# Altium integrated library Renesas ASSP.IntLib: 185 symbols (part 6 of 6)
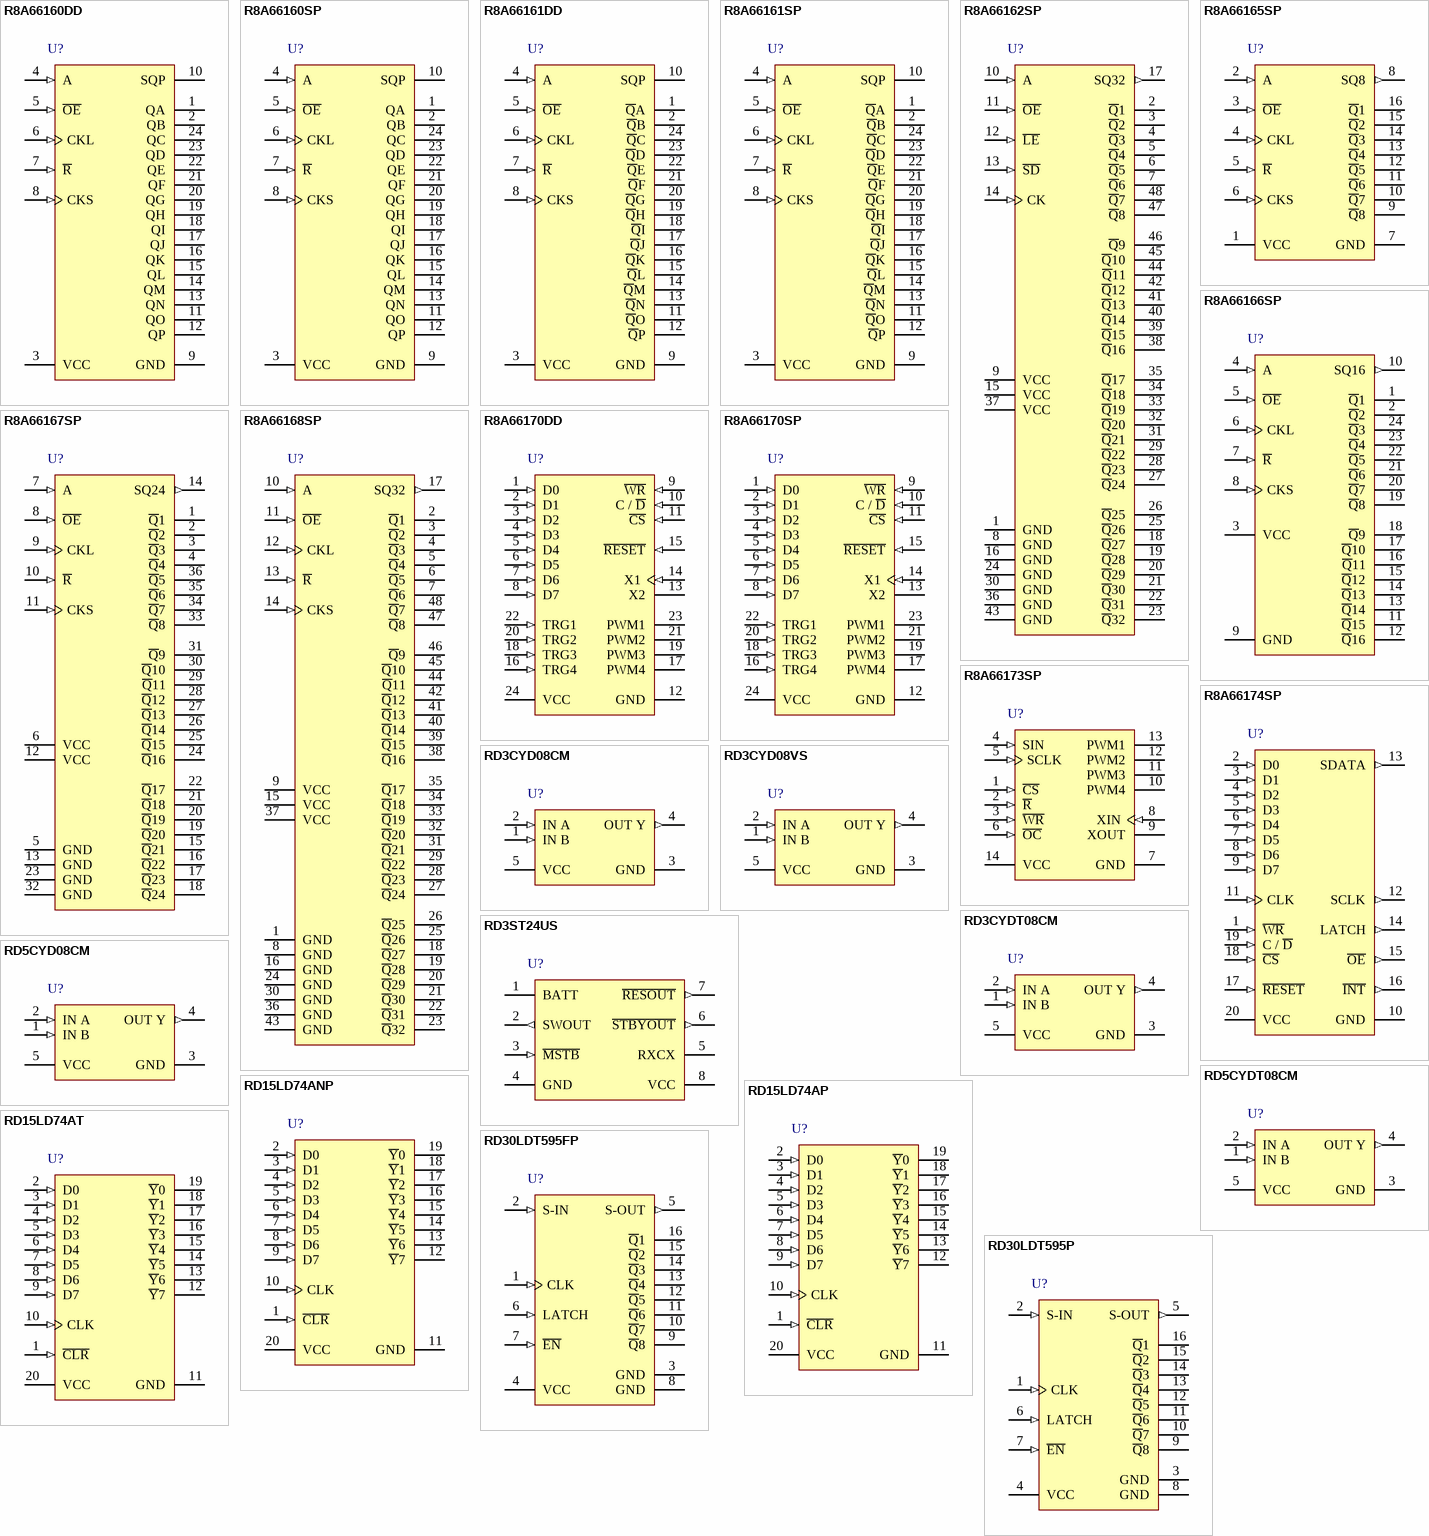
[diagram p21: symbols R8A66160DD to RD30LDT595P]

## R8A66167SP
designator U?
24-Bit High Voltage Output LED Driver with Shift Register and Latch, 36-Pin SOP; Published: 5-Feb-2010; DatasheetVersion: Rev.1.01, Dec-2008; PackageVersion: 2008; PackageReference: PRSP0036GC-A; Publisher: Altium Limited; PackageDescription: 36-Pin Plastic SOP, 15.88 x 7.49 x 2.29 mm Body, 0.8 mm Pitch; ComponentLink1Description: Manufacturer Link; ComponentLink1URL: http://sg.renesas.com/fmwk.jsp?cnt=assp_category_landing.jsp&fp=/products/assp; ComponentLink2Description: Datasheet; ComponentLink2URL: http://documentation.renesas.com/eng/products/assp/rej03f0281_r8a66165sp_ds.pdf
footprint PRSP0036GC-A_N (SOP, 36-Leads, Body 15.88x7.49mm, Pitch 0.8mm, IPC Medium Density)
footprint PRSP0036GC-A_L (SOP, 36-Leads, Body 15.88x7.49mm, Pitch 0.8mm, IPC High Density)
footprint PRSP0036GC-A_M (SOP, 36-Leads, Body 15.88x7.49mm, Pitch 0.8mm, IPC Low Density)
pins: 1 ~{Q}1 (hiz), 2 ~{Q}2 (hiz), 3 ~{Q}3 (hiz), 4 ~{Q}4 (hiz), 5 GND (power), 6 VCC (power), 7 A (in), 8 ~{OE} (in), 9 CKL (in), 10 ~{R} (in), 11 CKS (in), 12 VCC (power), 13 GND (power), 14 SQ24 (out), 15 ~{Q}21 (hiz), 16 ~{Q}22 (hiz), 17 ~{Q}23 (hiz), 18 ~{Q}24 (hiz), 19 ~{Q}20 (hiz), 20 ~{Q}19 (hiz), 21 ~{Q}18 (hiz), 22 ~{Q}17 (hiz), 23 GND (power), 24 ~{Q}16 (hiz), 25 ~{Q}15 (hiz), 26 ~{Q}14 (hiz), 27 ~{Q}13 (hiz), 28 ~{Q}12 (hiz), 29 ~{Q}11 (hiz), 30 ~{Q}10 (hiz), 31 ~{Q}9 (hiz), 32 GND (power), 33 ~{Q}8 (hiz), 34 ~{Q}7 (hiz), 35 ~{Q}6 (hiz), 36 ~{Q}5 (hiz)

## R8A66168SP
designator U?
32-Bit High Voltage Output LED Driver with Shift Register and Latch, 48-Pin SOP; Published: 5-Feb-2010; DatasheetVersion: Rev.1.01, Dec-2008; PackageVersion: 2008; PackageReference: PRSP0048ZB-A; Publisher: Altium Limited; PackageDescription: 48-Pin Plastic Small Outline Package, 15.875 x 7.49 x 2.29 mm Body,  0.635 mm Pitch; Code_IPC: SOP635P1035-48; ComponentLink1Description: Manufacturer Link; ComponentLink1URL: http://sg.renesas.com/fmwk.jsp?cnt=assp_category_landing.jsp&fp=/products/assp; ComponentLink2Description: Datasheet; ComponentLink2URL: http://documentation.renesas.com/eng/products/assp/rej03f0281_r8a66165sp_ds.pdf
footprint PRSP0048ZB-A_N (SOP, 48-Leads, Body 15.9x7.5mm, Pitch 0.635mm, IPC Medium Density)
footprint PRSP0048ZB-A_L (SOP, 48-Leads, Body 15.9x7.5mm, Pitch 0.635mm, IPC High Density)
footprint PRSP0048ZB-A_M (SOP, 48-Leads, Body 15.9x7.5mm, Pitch 0.635mm, IPC Low Density)
pins: 1 GND (power), 2 ~{Q}1 (hiz), 3 ~{Q}2 (hiz), 4 ~{Q}3 (hiz), 5 ~{Q}4 (hiz), 6 ~{Q}5 (hiz), 7 ~{Q}6 (hiz), 8 GND (power), 9 VCC (power), 10 A (in), 11 ~{OE} (in), 12 CKL (in), 13 ~{R} (in), 14 CKS (in), 15 VCC (power), 16 GND (power), 17 SQ32 (out), 18 ~{Q}27 (hiz), 19 ~{Q}28 (hiz), 20 ~{Q}29 (hiz), 21 ~{Q}30 (hiz), 22 ~{Q}31 (hiz), 23 ~{Q}32 (hiz), 24 GND (power), 25 ~{Q}26 (hiz), 26 ~{Q}25 (hiz), 27 ~{Q}24 (hiz), 28 ~{Q}23 (hiz), 29 ~{Q}22 (hiz), 30 GND (power), 31 ~{Q}21 (hiz), 32 ~{Q}20 (hiz), 33 ~{Q}19 (hiz), 34 ~{Q}18 (hiz), 35 ~{Q}17 (hiz), 36 GND (power), 37 VCC (power), 38 ~{Q}16 (hiz), 39 ~{Q}15 (hiz), 40 ~{Q}14 (hiz), 41 ~{Q}13 (hiz), 42 ~{Q}12 (hiz), 43 GND (power), 44 ~{Q}11 (hiz), 45 ~{Q}10 (hiz), 46 ~{Q}9 (hiz), 47 ~{Q}8 (hiz), 48 ~{Q}7 (hiz)

## R8A66170DD
designator U?
4-channel, 16-Bit PWM Generator, 24-Pin DIP; Published: 5-Feb-2010; DatasheetVersion: Rev.1.00, Apr-2008; PackageVersion: 2008; PackageReference: PRDP0024AF-A; Publisher: Altium Limited; PackageDescription: 24-Pin Plastic DIP, 31.75 x 6.55 mm Body, 7.62 mm Row Spacing, Pitch 2.54 mm; ComponentLink1Description: Manufacturer Link; ComponentLink1URL: http://sg.renesas.com/fmwk.jsp?cnt=assp_category_landing.jsp&fp=/products/assp; ComponentLink2Description: Datasheet; ComponentLink2URL: http://documentation.renesas.com/eng/products/assp/rej03f0272_r8a66170.pdf
footprint PRDP0024AF-A (DIP, 24-Leads, Row Spacing 7.62mm, Pitch 2.54mm, Body 31.75x6.54mm)
pins: 1 D0 (in), 2 D1 (in), 3 D2 (in), 4 D3 (in), 5 D4 (in), 6 D5 (in), 7 D6 (in), 8 D7 (in), 9 ~{WR} (in), 10 C / ~{D} (in), 11 ~{CS} (in), 12 GND (power), 13 X2, 14 X1 (in), 15 ~{RESET} (in), 16 TRG4 (in), 17 PWM4 (hiz), 18 TRG3 (in), 19 PWM3 (hiz), 20 TRG2 (in), 21 PWM2 (hiz), 22 TRG1 (in), 23 PWM1 (hiz), 24 VCC (power)

## R8A66170SP
designator U?
4-channel, 16-Bit PWM Generator, 24-Pin SOIC; Published: 5-Feb-2010; DatasheetVersion: Rev.1.00, Apr-2008; PackageVersion: 2009; PackageReference: PRSP0024DF-A; Publisher: Altium Limited; PackageDescription: 24-Pin Small Outline Integrated Circuit, 15.4 x 7.5 mm Body, 1.27 mm Pitch; ComponentLink1Description: Manufacturer Link; ComponentLink1URL: http://sg.renesas.com/fmwk.jsp?cnt=assp_category_landing.jsp&fp=/products/assp; ComponentLink2Description: Datasheet; ComponentLink2URL: http://documentation.renesas.com/eng/products/assp/rej03f0272_r8a66170.pdf; ComponentLink3Description: Packaging Specification; ComponentLink3URL: http://sg.renesas.com/media/products/common_info/package/pdf/ic/code/prsp0024df_a.pdf
footprint PRSP0024DF-A_N (SOIC, 24-Leads, Body 15.4x7.5mm, Pitch 1.27mm, IPC Medium Density)
footprint PRSP0024DF-A_L (SOIC, 24-Leads, Body 15.4x7.5mm, Pitch 1.27mm, IPC High Density)
footprint PRSP0024DF-A_M (SOIC, 24-Leads, Body 15.4x7.5mm, Pitch 1.27mm, IPC Low Density)
pins: 1 D0 (in), 2 D1 (in), 3 D2 (in), 4 D3 (in), 5 D4 (in), 6 D5 (in), 7 D6 (in), 8 D7 (in), 9 ~{WR} (in), 10 C / ~{D} (in), 11 ~{CS} (in), 12 GND (power), 13 X2, 14 X1 (in), 15 ~{RESET} (in), 16 TRG4 (in), 17 PWM4 (hiz), 18 TRG3 (in), 19 PWM3 (hiz), 20 TRG2 (in), 21 PWM2 (hiz), 22 TRG1 (in), 23 PWM1 (hiz), 24 VCC (power)

## R8A66173SP
designator U?
4-channel, 12-Bit PWM Generator, 14-Pin SOIC; Published: 5-Feb-2010; DatasheetVersion: Rev.1.00, Jan-2008; PackageVersion: 2008; PackageReference: PRSP0014DG-A; Publisher: Altium Limited; PackageDescription: 14-Pin Small Outline Integrated Circuit, 8.6 x 3.9 mm Body, 1.27 mm Pitch; Code_IPC: SOIC127P600-14; ComponentLink1Description: Manufacturer Link; ComponentLink1URL: http://sg.renesas.com/fmwk.jsp?cnt=assp_category_landing.jsp&fp=/products/assp; ComponentLink2Description: Datasheet; ComponentLink2URL: http://documentation.renesas.com/eng/products/assp/rej03f0264_r8a66173ds.pdf
footprint PRSP0014DG-A_N (SOIC, 14-Leads, Body 8.6x3.9mm, Pitch 1.27mm, IPC Medium Density)
footprint PRSP0014DG-A_L (SOIC, 14-Leads, Body 8.6x3.9mm, Pitch 1.27mm, IPC High Density)
footprint PRSP0014DG-A_M (SOIC, 14-Leads, Body 8.6x3.9mm, Pitch 1.27mm, IPC Low Density)
pins: 1 ~{CS} (in), 2 ~{R} (in), 3 ~{WR} (in), 4 SIN (in), 5 SCLK (in), 6 ~{OC} (in), 7 GND (power), 8 XIN (in), 9 XOUT, 10 PWM4 (hiz), 11 PWM3 (hiz), 12 PWM2 (hiz), 13 PWM1 (hiz), 14 VCC (power)

## R8A66174SP
designator U?
Parallel-In Serial-Out Data Buffer with FIFO, 20-Pin SOIC; Published: 5-Feb-2010; DatasheetVersion: Rev.1.01, Oct-2008; PackageVersion: 2008; PackageReference: PRSP0020DG-A; Publisher: Altium Limited; PackageDescription: 20-Pin Small Outline Integrated Circuit, 12.8 x 7.5 mm Body, 1.27 mm Pitch; Code_IPC: SOIC127P1030-20; ComponentLink1Description: Manufacturer Link; ComponentLink1URL: http://sg.renesas.com/fmwk.jsp?cnt=assp_category_landing.jsp&fp=/products/assp; ComponentLink2Description: Datasheet; ComponentLink2URL: http://documentation.renesas.com/eng/products/assp/rej03f0278_r8a66174spds.pdf
footprint PRSP0020DG-A_N (SOIC, 20-Leads, Body 12.8x7.5mm, Pitch 1.27mm, IPC Medium Density)
footprint PRSP0020DG-A_L (SOIC, 20-Leads, Body 12.8x7.5mm, Pitch 1.27mm, IPC High Density)
footprint PRSP0020DG-A_M (SOIC, 20-Leads, Body 12.8x7.5mm, Pitch 1.27mm, IPC Low Density)
pins: 1 ~{WR} (in), 2 D0 (in), 3 D1 (in), 4 D2 (in), 5 D3 (in), 6 D4 (in), 7 D5 (in), 8 D6 (in), 9 D7 (in), 10 GND (power), 11 CLK (in), 12 SCLK (out), 13 SDATA (out), 14 LATCH (out), 15 ~{OE} (out), 16 ~{INT} (out), 17 ~{RESET} (in), 18 ~{CS} (in), 19 C / ~{D} (in), 20 VCC (power)

## RD3CYD08CM
designator U?
IGBT Driver, 5-Pin SOT 23; Published: 5-Feb-2010; DatasheetVersion: Rev.6.00, Apr-2008; PackageVersion: Jan-2005; PackageReference: PTSP0005ZC-A; Publisher: Altium Limited; PackageDescription: 5-Pin Plastic SOT-353 Package 0.65 mm Pitch, 2.1 mm Lead Span; Code_JEITA: SC-88A; Code_IPC: SOT353-5; ComponentLink1Description: Manufacturer Link; ComponentLink1URL: http://sg.renesas.com/fmwk.jsp?cnt=assp_category_landing.jsp&fp=/products/assp; ComponentLink2Description: Datasheet; ComponentLink2URL: http://documentation.renesas.com/eng/products/logic/rej03d0179_rd3cyd08.pdf; ComponentLink3Description: Packaging Specification; ComponentLink3URL: http://sg.renesas.com/media/products/common_info/package/pdf/ic/code/ptsp0005zc_a.pdf
footprint PTSP0005ZC-A_N (SOT353, 5-Leads, Body 2x1.3mm, Pitch 0.65mm, Lead Span 2.1mm, IPC Medium Density)
footprint PTSP0005ZC-A_L (SOT353, 5-Leads, Body 2x1.3mm, Pitch 0.65mm, Lead Span 2.1mm, IPC High Density)
footprint PTSP0005ZC-A_M (SOT353, 5-Leads, Body 2x1.3mm, Pitch 0.65mm, Lead Span 2.1mm, IPC Low Density)
pins: 1 IN B (in), 2 IN A (in), 3 GND (power), 4 OUT Y (out), 5 VCC (power)

## RD3CYD08VS
designator U?
IGBT Driver, 5-Pin SOP; Published: 5-Feb-2010; DatasheetVersion: Rev.6.00, Apr-2008; PackageVersion: Sep-2005; PackageReference: PUSN0005KA-A; Publisher: Altium Limited; PackageDescription: 5-Pin Dual Lead-Flat Package 0.5 mm Pitch (VSON-5); Code_JEITA: P-USON5-1.2x1.6-0.50; ComponentLink1Description: Manufacturer Link; ComponentLink1URL: http://sg.renesas.com/fmwk.jsp?cnt=assp_category_landing.jsp&fp=/products/assp; ComponentLink2Description: Datasheet; ComponentLink2URL: http://documentation.renesas.com/eng/products/logic/rej03d0179_rd3cyd08.pdf; ComponentLink3Description: Packaging Specification; ComponentLink3URL: http://sg.renesas.com/media/products/common_info/package/pdf/ic/code/pusn0005ka_a.pdf
footprint PUSN0005KA-A (SOP, 5-Flat Leads, Body 1.6x1.2x0.55mm, Pitch 0.5mm, Renesas Recommended)
pins: 1 IN B (in), 2 IN A (in), 3 GND (power), 4 OUT Y (out), 5 VCC (power)

## RD3CYDT08CM
designator U?
IGBT Driver, 5-Pin SOT 23; Published: 5-Feb-2010; DatasheetVersion: Rev.3.00, Apr-2008; PackageVersion: Jan-2005; PackageReference: PTSP0005ZC-A; Publisher: Altium Limited; PackageDescription: 5-Pin Plastic SOT-353 Package 0.65 mm Pitch, 2.1 mm Lead Span; Code_JEITA: SC-88A; Code_IPC: SOT353-5; ComponentLink1Description: Manufacturer Link; ComponentLink1URL: http://sg.renesas.com/fmwk.jsp?cnt=assp_category_landing.jsp&fp=/products/assp; ComponentLink2Description: Datasheet; ComponentLink2URL: http://documentation.renesas.com/eng/products/logic/rej03d0905_rd3cydt08ds.pdf; ComponentLink3Description: Packaging Specification; ComponentLink3URL: http://sg.renesas.com/media/products/common_info/package/pdf/ic/code/ptsp0005zc_a.pdf
footprint PTSP0005ZC-A_N (SOT353, 5-Leads, Body 2x1.3mm, Pitch 0.65mm, Lead Span 2.1mm, IPC Medium Density)
footprint PTSP0005ZC-A_L (SOT353, 5-Leads, Body 2x1.3mm, Pitch 0.65mm, Lead Span 2.1mm, IPC High Density)
footprint PTSP0005ZC-A_M (SOT353, 5-Leads, Body 2x1.3mm, Pitch 0.65mm, Lead Span 2.1mm, IPC Low Density)
pins: 1 IN B (in), 2 IN A (in), 3 GND (power), 4 OUT Y (out), 5 VCC (power)

## RD3ST24US
designator U?
Standby Control IC, 8-Pin TSSOP; Published: 5-Feb-2010; DatasheetVersion: Rev.2.00, Mar-2006; PackageVersion: Sep-2005; PackageReference: PVSP0008KA-A; Publisher: Altium Limited; PackageDescription: 8-Pin Plastic Thin Shrink Small Outline Package 0.5 mm Pitch; Code_JEITA: P-VSSOP8-2.3x2-0.50; ComponentLink1Description: Manufacturer Link; ComponentLink1URL: http://sg.renesas.com/fmwk.jsp?cnt=assp_category_landing.jsp&fp=/products/assp; ComponentLink2Description: Datasheet; ComponentLink2URL: http://documentation.renesas.com/eng/products/logic/rej03d0521_rd3st24.pdf; ComponentLink3Description: Packaging Specification; ComponentLink3URL: http://sg.renesas.com/media/products/common_info/package/pdf/ic/code/pvsp0008ka_a.pdf
footprint PVSP0008KA-A_N (TSSOP, 8-Leads, Body 2x2.3mm, Pitch 0.5mm, IPC Medium Density)
footprint PVSP0008KA-A_L (TSSOP, 8-Leads, Body 2x2.3mm, Pitch 0.5mm, IPC High Density)
footprint PVSP0008KA-A_M (TSSOP, 8-Leads, Body 2x2.3mm, Pitch 0.5mm, IPC Low Density)
pins: 1 BATT (power), 2 SWOUT (out), 3 ~{MSTB} (in), 4 GND (power), 5 RXCX (power), 6 ~{STBYOUT} (out), 7 ~{RESOUT} (out), 8 VCC (power)

## RD5CYD08CM
designator U?
IGBT Driver, 5-Pin SOT 23; Published: 5-Feb-2010; DatasheetVersion: Rev.7.00, Apr-2008; PackageVersion: Jan-2005; PackageReference: PTSP0005ZC-A; Publisher: Altium Limited; PackageDescription: 5-Pin Plastic SOT-353 Package 0.65 mm Pitch, 2.1 mm Lead Span; Code_JEITA: SC-88A; Code_IPC: SOT353-5; ComponentLink1Description: Manufacturer Link; ComponentLink1URL: http://sg.renesas.com/fmwk.jsp?cnt=assp_category_landing.jsp&fp=/products/assp; ComponentLink2Description: Datasheet; ComponentLink2URL: http://documentation.renesas.com/eng/products/logic/rej03d0180_rd5cyd08.pdf; ComponentLink3Description: Packaging Specification; ComponentLink3URL: http://sg.renesas.com/media/products/common_info/package/pdf/ic/code/ptsp0005zc_a.pdf
footprint PTSP0005ZC-A_N (SOT353, 5-Leads, Body 2x1.3mm, Pitch 0.65mm, Lead Span 2.1mm, IPC Medium Density)
footprint PTSP0005ZC-A_L (SOT353, 5-Leads, Body 2x1.3mm, Pitch 0.65mm, Lead Span 2.1mm, IPC High Density)
footprint PTSP0005ZC-A_M (SOT353, 5-Leads, Body 2x1.3mm, Pitch 0.65mm, Lead Span 2.1mm, IPC Low Density)
pins: 1 IN B (in), 2 IN A (in), 3 GND (power), 4 OUT Y (out), 5 VCC (power)

## RD5CYDT08CM
designator U?
IGBT Driver/CMOS Logic Level Shifter, 5-Pin SOT 23; Published: 5-Feb-2010; DatasheetVersion: Rev.7.00, Apr-2008; PackageVersion: Jan-2005; PackageReference: PTSP0005ZC-A; Publisher: Altium Limited; PackageDescription: 5-Pin Plastic SOT-353 Package 0.65 mm Pitch, 2.1 mm Lead Span; Code_JEITA: SC-88A; Code_IPC: SOT353-5; ComponentLink1Description: Manufacturer Link; ComponentLink1URL: http://sg.renesas.com/fmwk.jsp?cnt=assp_category_landing.jsp&fp=/products/assp; ComponentLink2Description: Datasheet; ComponentLink2URL: http://documentation.renesas.com/eng/products/logic/rej03d0181_rd5cydt08.pdf; ComponentLink3Description: Packaging Specification; ComponentLink3URL: http://sg.renesas.com/media/products/common_info/package/pdf/ic/code/ptsp0005zc_a.pdf
footprint PTSP0005ZC-A_N (SOT353, 5-Leads, Body 2x1.3mm, Pitch 0.65mm, Lead Span 2.1mm, IPC Medium Density)
footprint PTSP0005ZC-A_L (SOT353, 5-Leads, Body 2x1.3mm, Pitch 0.65mm, Lead Span 2.1mm, IPC High Density)
footprint PTSP0005ZC-A_M (SOT353, 5-Leads, Body 2x1.3mm, Pitch 0.65mm, Lead Span 2.1mm, IPC Low Density)
pins: 1 IN B (in), 2 IN A (in), 3 GND (power), 4 OUT Y (out), 5 VCC (power)

## RD15LD74ANP
designator U?
8-Bit D-Type Flip-Flop Driver with clear, 20-Pin DIP; Published: 5-Feb-2010; DatasheetVersion: Rev.3.00, Feb-2008; PackageVersion: Sep-2005; PackageReference: PRDP0020AC-B; Publisher: Altium Limited; PackageDescription: 20-Pin Plastic DIP, 24.5 x 6.3 mm Body, 7.62 mm Row Spacing, 2.54 mm Pitch; Code_JEITA: P-DIP20-6.3x24.5-2.54; ComponentLink1Description: Manufacturer Link; ComponentLink1URL: http://sg.renesas.com/fmwk.jsp?cnt=assp_category_landing.jsp&fp=/products/assp; ComponentLink2Description: Datasheet; ComponentLink2URL: http://documentation.renesas.com/eng/products/logic/rej03d0894_rd15ld74apanpatds.pdf; ComponentLink3Description: Packaging Specification; ComponentLink3URL: http://sg.renesas.com/media/products/common_info/package/pdf/ic/code/prdp0020ac_b.pdf
footprint PRDP0020AC-B (DIP, 20-Leads, Row Spacing 7.62mm, Pitch 2.54mm, Body 24.5x6.3mm)
pins: 1 ~{CLR} (in), 2 D0 (in), 3 D1 (in), 4 D2 (in), 5 D3 (in), 6 D4 (in), 7 D5 (in), 8 D6 (in), 9 D7 (in), 10 CLK (in), 11 GND (power), 12 ~{Y}7 (hiz), 13 ~{Y}6 (hiz), 14 ~{Y}5 (hiz), 15 ~{Y}4 (hiz), 16 ~{Y}3 (hiz), 17 ~{Y}2 (hiz), 18 ~{Y}1 (hiz), 19 ~{Y}0 (hiz), 20 VCC (power)

## RD15LD74AP
designator U?
8-Bit D-Type Flip-Flop Driver with clear, 20-Pin DIP; Published: 5-Feb-2010; DatasheetVersion: Rev.3.00, Feb-2008; PackageVersion: Sep-2005; PackageReference: PRDP0020BA-A; Publisher: Altium Limited; PackageDescription: 20-Pin Plastic Shrink DIP, 19 x 6.3 mm Body, 7.62 mm Row Spacing, 1.778 mm Pitch; Code_JEITA: P-SDIP20-6.3x19-1.78; ComponentLink1Description: Manufacturer Link; ComponentLink1URL: http://sg.renesas.com/fmwk.jsp?cnt=assp_category_landing.jsp&fp=/products/assp; ComponentLink2Description: Datasheet; ComponentLink2URL: http://documentation.renesas.com/eng/products/logic/rej03d0894_rd15ld74apanpatds.pdf; ComponentLink3Description: Packaging Specification; ComponentLink3URL: http://sg.renesas.com/media/products/common_info/package/pdf/ic/code/prdp0020ba_a.pdf
footprint PRDP0020BA-A (DIP, 20-Leads, Row Spacing 7.62mm, Pitch 1.778mm, Body 19x6.3mm)
pins: 1 ~{CLR} (in), 2 D0 (in), 3 D1 (in), 4 D2 (in), 5 D3 (in), 6 D4 (in), 7 D5 (in), 8 D6 (in), 9 D7 (in), 10 CLK (in), 11 GND (power), 12 ~{Y}7 (hiz), 13 ~{Y}6 (hiz), 14 ~{Y}5 (hiz), 15 ~{Y}4 (hiz), 16 ~{Y}3 (hiz), 17 ~{Y}2 (hiz), 18 ~{Y}1 (hiz), 19 ~{Y}0 (hiz), 20 VCC (power)

## RD15LD74AT
designator U?
8-Bit D-Type Flip-Flop Driver with clear, 20-Pin TSOP; Published: 5-Feb-2010; DatasheetVersion: Rev.3.00, Feb-2008; PackageVersion: Sep-2005; PackageReference: PTSP0020JB-A; Publisher: Altium Limited; PackageDescription: 20-Pin Plastic Thin Small Outline Package, 6.5 x 4.4 mm Body, 0.65 mm Pitch; Code_JEITA: P-TSSOP20-4.4x6.5-0.65; ComponentLink1Description: Manufacturer Link; ComponentLink1URL: http://sg.renesas.com/fmwk.jsp?cnt=assp_category_landing.jsp&fp=/products/assp; ComponentLink2Description: Datasheet; ComponentLink2URL: http://documentation.renesas.com/eng/products/logic/rej03d0894_rd15ld74apanpatds.pdf; ComponentLink3Description: Packaging Specification; ComponentLink3URL: http://sg.renesas.com/media/products/common_info/package/pdf/ic/code/ptsp0020jb_a.pdf
footprint PTSP0020JB-A_N (TSOP, 20-Leads, Body 6.5x4.4mm, Pitch 0.65mm, IPC Medium Density)
footprint PTSP0020JB-A_L (TSOP, 20-Leads, Body 6.5x4.4mm, Pitch 0.65mm, IPC High Density)
footprint PTSP0020JB-A_M (TSOP, 20-Leads, Body 6.5x4.4mm, Pitch 0.65mm, IPC Low Density)
pins: 1 ~{CLR} (in), 2 D0 (in), 3 D1 (in), 4 D2 (in), 5 D3 (in), 6 D4 (in), 7 D5 (in), 8 D6 (in), 9 D7 (in), 10 CLK (in), 11 GND (power), 12 ~{Y}7 (hiz), 13 ~{Y}6 (hiz), 14 ~{Y}5 (hiz), 15 ~{Y}4 (hiz), 16 ~{Y}3 (hiz), 17 ~{Y}2 (hiz), 18 ~{Y}1 (hiz), 19 ~{Y}0 (hiz), 20 VCC (power)

## RD30LDT595FP
designator U?
8-Bit Serial-In Parallel-Out LED Driver, 16-Pin SOP; Published: 5-Feb-2010; DatasheetVersion: Rev.2.00, Jun-2008; PackageVersion: Sep-2005; PackageReference: PRSP0016DH-B; Publisher: Altium Limited; PackageDescription: 16-Pin Plastic Small Outline Package 1.27 mm Pitch; Code_JEITA: P-SOP16-5.5x10.06-1.27; ComponentLink1Description: Manufacturer Link; ComponentLink1URL: http://sg.renesas.com/fmwk.jsp?cnt=assp_category_landing.jsp&fp=/products/assp; ComponentLink2Description: Datasheet; ComponentLink2URL: http://documentation.renesas.com/eng/products/logic/rej03d0906_rd30ldt595ds.pdf; ComponentLink3Description: Packaging Specification; ComponentLink3URL: http://sg.renesas.com/media/products/common_info/package/pdf/ic/code/prsp0016dh_b.pdf
footprint PRSP0016DH-B_N (SOP, 16-Leads, Body 10.06x5.5mm, Pitch 1.27mm, IPC Medium Density)
footprint PRSP0016DH-B_L (SOP, 16-Leads, Body 10.06x5.5mm, Pitch 1.27mm, IPC High Density)
footprint PRSP0016DH-B_M (SOP, 16-Leads, Body 10.06x5.5mm, Pitch 1.27mm, IPC Low Density)
pins: 1 CLK (in), 2 S-IN (in), 3 GND (power), 4 VCC (power), 5 S-OUT (out), 6 LATCH (in), 7 ~{EN} (in), 8 GND (power), 9 ~{Q}8 (hiz), 10 ~{Q}7 (hiz), 11 ~{Q}6 (hiz), 12 ~{Q}5 (hiz), 13 ~{Q}4 (hiz), 14 ~{Q}3 (hiz), 15 ~{Q}2 (hiz), 16 ~{Q}1 (hiz)

## RD30LDT595P
designator U?
8-Bit Serial-In Parallel-Out LED Driver, 16-Pin DIP; Published: 5-Feb-2010; DatasheetVersion: Rev.2.00, Jun-2008; PackageVersion: Sep-2005; PackageReference: PRDP0016AE-B; Publisher: Altium Limited; PackageDescription: DIP, Plastic, 16-Pin, Row Spacing 7.62 mm, Pitch 2.54 mm; Code_JEITA: P-DIP16-6.3x19.2-2.54; ComponentLink1Description: Manufacturer Link; ComponentLink1URL: http://sg.renesas.com/fmwk.jsp?cnt=assp_category_landing.jsp&fp=/products/assp; ComponentLink2Description: Datasheet; ComponentLink2URL: http://documentation.renesas.com/eng/products/logic/rej03d0906_rd30ldt595ds.pdf; ComponentLink3Description: Packaging Specification; ComponentLink3URL: http://sg.renesas.com/media/products/common_info/package/pdf/ic/code/prdp0016ae_b.pdf
footprint PRDP0016AE-B (DIP, 16-Leads, Row Spacing 7.62mm, Pitch 2.54mm, Body 19.2x6.3mm)
pins: 1 CLK (in), 2 S-IN (in), 3 GND (power), 4 VCC (power), 5 S-OUT (out), 6 LATCH (in), 7 ~{EN} (in), 8 GND (power), 9 ~{Q}8 (hiz), 10 ~{Q}7 (hiz), 11 ~{Q}6 (hiz), 12 ~{Q}5 (hiz), 13 ~{Q}4 (hiz), 14 ~{Q}3 (hiz), 15 ~{Q}2 (hiz), 16 ~{Q}1 (hiz)

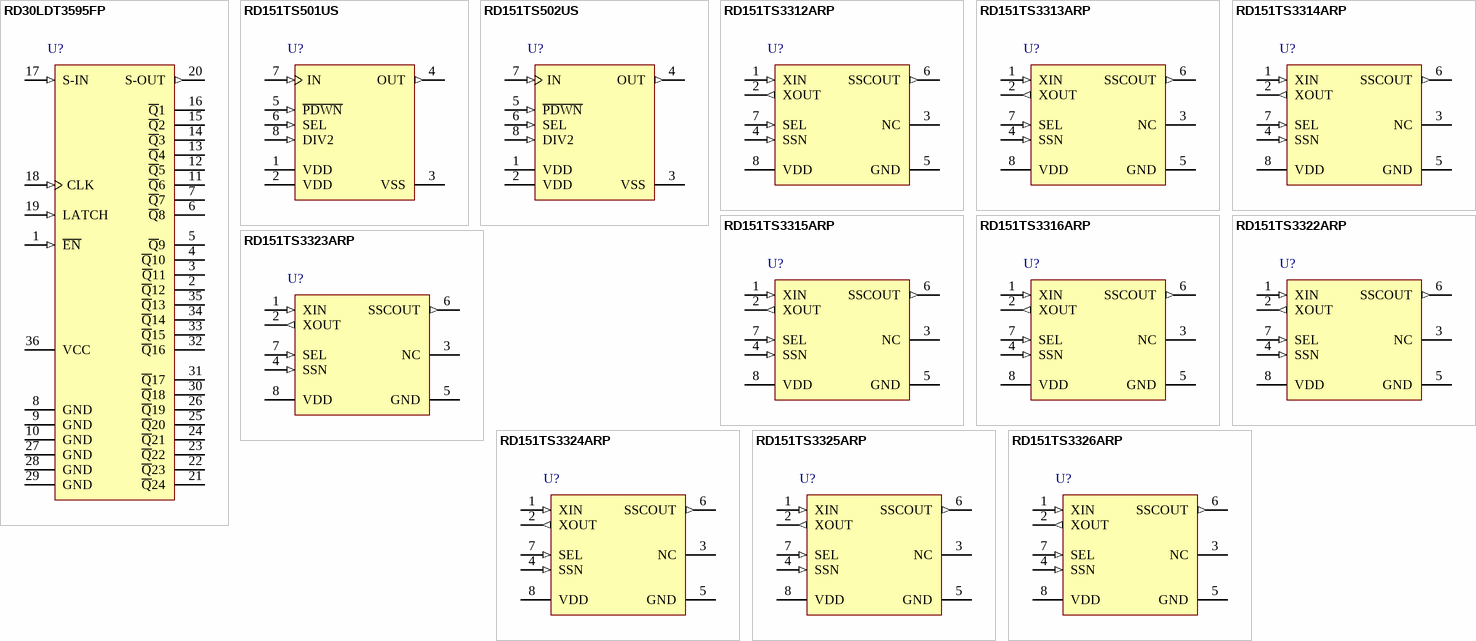
[diagram p16: symbols RD30LDT3595FP to RD151TS3326ARP]

## RD30LDT3595FP
designator U?
24-Bit Serial-In Parallel-Out LED Driver, 36-Pin SOP; Published: 5-Feb-2010; DatasheetVersion: Rev.4.00, Dec-2008; PackageVersion: Sep-2005; PackageReference: PRSP0036GA-B; Publisher: Altium Limited; PackageDescription: 36-Pin Plastic Shrink SOP, 15 x 8.4 mm Body, 0.8 mm Pitch; Code_JEITA: P-SSOP36-8.4x15-0.80; ComponentLink1Description: Manufacturer Link; ComponentLink1URL: http://sg.renesas.com/fmwk.jsp?cnt=assp_category_landing.jsp&fp=/products/assp; ComponentLink2Description: Datasheet; ComponentLink2URL: http://documentation.renesas.com/eng/products/logic/rej03d0896_rd30ldt3595ds.pdf; ComponentLink3Description: Packaging Specification; ComponentLink3URL: http://sg.renesas.com/media/products/common_info/package/pdf/ic/code/prsp0036ga_b.pdf
footprint PRSP0036GA-B_N (SOP, 36-Leads, Body 15x8.4mm, Pitch 0.8mm, IPC Medium Density)
footprint PRSP0036GA-B_L (SOP, 36-Leads, Body 15x8.4mm, Pitch 0.8mm, IPC High Density)
footprint PRSP0036GA-B_M (SOP, 36-Leads, Body 15x8.4mm, Pitch 0.8mm, IPC Low Density)
pins: 1 ~{EN} (in), 2 ~{Q}12 (hiz), 3 ~{Q}11 (hiz), 4 ~{Q}10 (hiz), 5 ~{Q}9 (hiz), 6 ~{Q}8 (hiz), 7 ~{Q}7 (hiz), 8 GND (power), 9 GND (power), 10 GND (power), 11 ~{Q}6 (hiz), 12 ~{Q}5 (hiz), 13 ~{Q}4 (hiz), 14 ~{Q}3 (hiz), 15 ~{Q}2 (hiz), 16 ~{Q}1 (hiz), 17 S-IN (in), 18 CLK (in), 19 LATCH (in), 20 S-OUT (out), 21 ~{Q}24 (hiz), 22 ~{Q}23 (hiz), 23 ~{Q}22 (hiz), 24 ~{Q}21 (hiz), 25 ~{Q}20 (hiz), 26 ~{Q}19 (hiz), 27 GND (power), 28 GND (power), 29 GND (power), 30 ~{Q}18 (hiz), 31 ~{Q}17 (hiz), 32 ~{Q}16 (hiz), 33 ~{Q}15 (hiz), 34 ~{Q}14 (hiz), 35 ~{Q}13 (hiz), 36 VCC (power)

## RD151TS501US
designator U?
PLL Clock Generator, 8-Pin TSSOP; Published: 5-Feb-2010; DatasheetVersion: Rev.1.02, Apr-2007; PackageVersion: Sep-2005; PackageReference: PVSP0008KA-A; Publisher: Altium Limited; PackageDescription: 8-Pin Plastic Thin Shrink Small Outline Package 0.5 mm Pitch; Code_JEITA: P-VSSOP8-2.3x2-0.50; ComponentLink1Description: Manufacturer Link; ComponentLink1URL: http://sg.renesas.com/fmwk.jsp?cnt=assp_category_landing.jsp&fp=/products/assp; ComponentLink2Description: Datasheet; ComponentLink2URL: http://documentation.renesas.com/eng/products/assp/rej03d0897_rd151ts501usds.pdf; ComponentLink3Description: Packaging Specification; ComponentLink3URL: http://sg.renesas.com/media/products/common_info/package/pdf/ic/code/pvsp0008ka_a.pdf
footprint PVSP0008KA-A_N (TSSOP, 8-Leads, Body 2x2.3mm, Pitch 0.5mm, IPC Medium Density)
footprint PVSP0008KA-A_L (TSSOP, 8-Leads, Body 2x2.3mm, Pitch 0.5mm, IPC High Density)
footprint PVSP0008KA-A_M (TSSOP, 8-Leads, Body 2x2.3mm, Pitch 0.5mm, IPC Low Density)
pins: 1 VDD (power), 2 VDD (power), 3 VSS (power), 4 OUT (out), 5 ~{PDWN} (in), 6 SEL (in), 7 IN (in), 8 DIV2 (in)

## RD151TS502US
designator U?
PLL Clock Generator, 8-Pin TSSOP; Published: 5-Feb-2010; DatasheetVersion: Rev.1.00, Apr-2007; PackageVersion: Sep-2005; PackageReference: PVSP0008KA-A; Publisher: Altium Limited; PackageDescription: 8-Pin Plastic Thin Shrink Small Outline Package 0.5 mm Pitch; Code_JEITA: P-VSSOP8-2.3x2-0.50; ComponentLink1Description: Manufacturer Link; ComponentLink1URL: http://sg.renesas.com/fmwk.jsp?cnt=assp_category_landing.jsp&fp=/products/assp; ComponentLink2Description: Datasheet; ComponentLink2URL: http://documentation.renesas.com/eng/products/assp/rej03d0898_rd151ts502usds.pdf; ComponentLink3Description: Packaging Specification; ComponentLink3URL: http://sg.renesas.com/media/products/common_info/package/pdf/ic/code/pvsp0008ka_a.pdf
footprint PVSP0008KA-A_N (TSSOP, 8-Leads, Body 2x2.3mm, Pitch 0.5mm, IPC Medium Density)
footprint PVSP0008KA-A_L (TSSOP, 8-Leads, Body 2x2.3mm, Pitch 0.5mm, IPC High Density)
footprint PVSP0008KA-A_M (TSSOP, 8-Leads, Body 2x2.3mm, Pitch 0.5mm, IPC Low Density)
pins: 1 VDD (power), 2 VDD (power), 3 VSS (power), 4 OUT (out), 5 ~{PDWN} (in), 6 SEL (in), 7 IN (in), 8 DIV2 (in)

## RD151TS3312ARP
designator U?
Spread Spectrum Clock for EMI Solution, 8-Pin SOIC; Published: 5-Feb-2010; DatasheetVersion: Rev.1.00, May-2006; PackageVersion: Sep-2005; PackageReference: PRSP0008DD-C; Publisher: Altium Limited; PackageDescription: 8-Pin Plastic Small Outline Integrated Circuit 1.27 mm Pitch; Code_JEITA: P-SOP8-3.95x4.9-1.27; Code_IPC: SOIC127P600-8; ComponentLink1Description: Manufacturer Link; ComponentLink1URL: http://sg.renesas.com/fmwk.jsp?cnt=assp_category_landing.jsp&fp=/products/assp; ComponentLink2Description: Datasheet; ComponentLink2URL: http://documentation.renesas.com/eng/products/logic/rej03d0793_rd151ts3312_22arpds.pdf; ComponentLink3Description: Packaging Specification; ComponentLink3URL: http://sg.renesas.com/media/products/common_info/package/pdf/ic/code/prsp0008dd_c.pdf
footprint PRSP0008DD-C_N (SOIC, 8-Leads, Body 4.9x3.95mm, Pitch 1.27mm, IPC Medium Density)
footprint PRSP0008DD-C_L (SOIC, 8-Leads, Body 4.9x3.95mm, Pitch 1.27mm, IPC High Density)
footprint PRSP0008DD-C_M (SOIC, 8-Leads, Body 4.9x3.95mm, Pitch 1.27mm, IPC Low Density)
pins: 1 XIN (in), 2 XOUT (out), 3 NC, 4 SSN (in), 5 GND (power), 6 SSCOUT (out), 7 SEL (in), 8 VDD (power)

## RD151TS3313ARP
designator U?
Spread Spectrum Clock for EMI Solution, 8-Pin SOIC; Published: 5-Feb-2010; DatasheetVersion: Rev.1.00, May-2006; PackageVersion: Sep-2005; PackageReference: PRSP0008DD-C; Publisher: Altium Limited; PackageDescription: 8-Pin Plastic Small Outline Integrated Circuit 1.27 mm Pitch; Code_JEITA: P-SOP8-3.95x4.9-1.27; Code_IPC: SOIC127P600-8; ComponentLink1Description: Manufacturer Link; ComponentLink1URL: http://sg.renesas.com/fmwk.jsp?cnt=assp_category_landing.jsp&fp=/products/assp; ComponentLink2Description: Datasheet; ComponentLink2URL: http://documentation.renesas.com/eng/products/logic/rej03d0794_rd151ts3313_23arpds.pdf; ComponentLink3Description: Packaging Specification; ComponentLink3URL: http://sg.renesas.com/media/products/common_info/package/pdf/ic/code/prsp0008dd_c.pdf
footprint PRSP0008DD-C_N (SOIC, 8-Leads, Body 4.9x3.95mm, Pitch 1.27mm, IPC Medium Density)
footprint PRSP0008DD-C_L (SOIC, 8-Leads, Body 4.9x3.95mm, Pitch 1.27mm, IPC High Density)
footprint PRSP0008DD-C_M (SOIC, 8-Leads, Body 4.9x3.95mm, Pitch 1.27mm, IPC Low Density)
pins: 1 XIN (in), 2 XOUT (out), 3 NC, 4 SSN (in), 5 GND (power), 6 SSCOUT (out), 7 SEL (in), 8 VDD (power)

## RD151TS3314ARP
designator U?
Spread Spectrum Clock for EMI Solution, 8-Pin SOIC; Published: 5-Feb-2010; DatasheetVersion: Rev.1.00, May-2006; PackageVersion: Sep-2005; PackageReference: PRSP0008DD-C; Publisher: Altium Limited; PackageDescription: 8-Pin Plastic Small Outline Integrated Circuit 1.27 mm Pitch; Code_JEITA: P-SOP8-3.95x4.9-1.27; Code_IPC: SOIC127P600-8; ComponentLink1Description: Manufacturer Link; ComponentLink1URL: http://sg.renesas.com/fmwk.jsp?cnt=assp_category_landing.jsp&fp=/products/assp; ComponentLink2Description: Datasheet; ComponentLink2URL: http://documentation.renesas.com/eng/products/logic/rej03d0795_rd151ts3314_24arpds.pdf; ComponentLink3Description: Packaging Specification; ComponentLink3URL: http://sg.renesas.com/media/products/common_info/package/pdf/ic/code/prsp0008dd_c.pdf
footprint PRSP0008DD-C_N (SOIC, 8-Leads, Body 4.9x3.95mm, Pitch 1.27mm, IPC Medium Density)
footprint PRSP0008DD-C_L (SOIC, 8-Leads, Body 4.9x3.95mm, Pitch 1.27mm, IPC High Density)
footprint PRSP0008DD-C_M (SOIC, 8-Leads, Body 4.9x3.95mm, Pitch 1.27mm, IPC Low Density)
pins: 1 XIN (in), 2 XOUT (out), 3 NC, 4 SSN (in), 5 GND (power), 6 SSCOUT (out), 7 SEL (in), 8 VDD (power)

## RD151TS3315ARP
designator U?
Spread Spectrum Clock for EMI Solution, 8-Pin SOIC; Published: 5-Feb-2010; DatasheetVersion: Rev.1.00, May-2006; PackageVersion: Sep-2005; PackageReference: PRSP0008DD-C; Publisher: Altium Limited; PackageDescription: 8-Pin Plastic Small Outline Integrated Circuit 1.27 mm Pitch; Code_JEITA: P-SOP8-3.95x4.9-1.27; Code_IPC: SOIC127P600-8; ComponentLink1Description: Manufacturer Link; ComponentLink1URL: http://sg.renesas.com/fmwk.jsp?cnt=assp_category_landing.jsp&fp=/products/assp; ComponentLink2Description: Datasheet; ComponentLink2URL: http://documentation.renesas.com/eng/products/logic/rej03d0796_rd151ts3315_25arpds.pdf; ComponentLink3Description: Packaging Specification; ComponentLink3URL: http://sg.renesas.com/media/products/common_info/package/pdf/ic/code/prsp0008dd_c.pdf
footprint PRSP0008DD-C_N (SOIC, 8-Leads, Body 4.9x3.95mm, Pitch 1.27mm, IPC Medium Density)
footprint PRSP0008DD-C_L (SOIC, 8-Leads, Body 4.9x3.95mm, Pitch 1.27mm, IPC High Density)
footprint PRSP0008DD-C_M (SOIC, 8-Leads, Body 4.9x3.95mm, Pitch 1.27mm, IPC Low Density)
pins: 1 XIN (in), 2 XOUT (out), 3 NC, 4 SSN (in), 5 GND (power), 6 SSCOUT (out), 7 SEL (in), 8 VDD (power)

## RD151TS3316ARP
designator U?
Spread Spectrum Clock for EMI Solution, 8-Pin SOIC; Published: 5-Feb-2010; DatasheetVersion: Rev.1.00, May-2006; PackageVersion: Sep-2005; PackageReference: PRSP0008DD-C; Publisher: Altium Limited; PackageDescription: 8-Pin Plastic Small Outline Integrated Circuit 1.27 mm Pitch; Code_JEITA: P-SOP8-3.95x4.9-1.27; Code_IPC: SOIC127P600-8; ComponentLink1Description: Manufacturer Link; ComponentLink1URL: http://sg.renesas.com/fmwk.jsp?cnt=assp_category_landing.jsp&fp=/products/assp; ComponentLink2Description: Datasheet; ComponentLink2URL: http://documentation.renesas.com/eng/products/logic/rej03d0797_rd151ts3316_26arpds.pdf; ComponentLink3Description: Packaging Specification; ComponentLink3URL: http://sg.renesas.com/media/products/common_info/package/pdf/ic/code/prsp0008dd_c.pdf
footprint PRSP0008DD-C_N (SOIC, 8-Leads, Body 4.9x3.95mm, Pitch 1.27mm, IPC Medium Density)
footprint PRSP0008DD-C_L (SOIC, 8-Leads, Body 4.9x3.95mm, Pitch 1.27mm, IPC High Density)
footprint PRSP0008DD-C_M (SOIC, 8-Leads, Body 4.9x3.95mm, Pitch 1.27mm, IPC Low Density)
pins: 1 XIN (in), 2 XOUT (out), 3 NC, 4 SSN (in), 5 GND (power), 6 SSCOUT (out), 7 SEL (in), 8 VDD (power)

## RD151TS3322ARP
designator U?
Spread Spectrum Clock for EMI Solution, 8-Pin SOIC; Published: 5-Feb-2010; DatasheetVersion: Rev.1.00, May-2006; PackageVersion: Sep-2005; PackageReference: PRSP0008DD-C; Publisher: Altium Limited; PackageDescription: 8-Pin Plastic Small Outline Integrated Circuit 1.27 mm Pitch; Code_JEITA: P-SOP8-3.95x4.9-1.27; Code_IPC: SOIC127P600-8; ComponentLink1Description: Manufacturer Link; ComponentLink1URL: http://sg.renesas.com/fmwk.jsp?cnt=assp_category_landing.jsp&fp=/products/assp; ComponentLink2Description: Datasheet; ComponentLink2URL: http://documentation.renesas.com/eng/products/logic/rej03d0793_rd151ts3312_22arpds.pdf; ComponentLink3Description: Packaging Specification; ComponentLink3URL: http://sg.renesas.com/media/products/common_info/package/pdf/ic/code/prsp0008dd_c.pdf
footprint PRSP0008DD-C_N (SOIC, 8-Leads, Body 4.9x3.95mm, Pitch 1.27mm, IPC Medium Density)
footprint PRSP0008DD-C_L (SOIC, 8-Leads, Body 4.9x3.95mm, Pitch 1.27mm, IPC High Density)
footprint PRSP0008DD-C_M (SOIC, 8-Leads, Body 4.9x3.95mm, Pitch 1.27mm, IPC Low Density)
pins: 1 XIN (in), 2 XOUT (out), 3 NC, 4 SSN (in), 5 GND (power), 6 SSCOUT (out), 7 SEL (in), 8 VDD (power)

## RD151TS3323ARP
designator U?
Spread Spectrum Clock for EMI Solution, 8-Pin SOIC; Published: 5-Feb-2010; DatasheetVersion: Rev.1.00, May-2006; PackageVersion: Sep-2005; PackageReference: PRSP0008DD-C; Publisher: Altium Limited; PackageDescription: 8-Pin Plastic Small Outline Integrated Circuit 1.27 mm Pitch; Code_JEITA: P-SOP8-3.95x4.9-1.27; Code_IPC: SOIC127P600-8; ComponentLink1Description: Manufacturer Link; ComponentLink1URL: http://sg.renesas.com/fmwk.jsp?cnt=assp_category_landing.jsp&fp=/products/assp; ComponentLink2Description: Datasheet; ComponentLink2URL: http://documentation.renesas.com/eng/products/logic/rej03d0794_rd151ts3313_23arpds.pdf; ComponentLink3Description: Packaging Specification; ComponentLink3URL: http://sg.renesas.com/media/products/common_info/package/pdf/ic/code/prsp0008dd_c.pdf
footprint PRSP0008DD-C_N (SOIC, 8-Leads, Body 4.9x3.95mm, Pitch 1.27mm, IPC Medium Density)
footprint PRSP0008DD-C_L (SOIC, 8-Leads, Body 4.9x3.95mm, Pitch 1.27mm, IPC High Density)
footprint PRSP0008DD-C_M (SOIC, 8-Leads, Body 4.9x3.95mm, Pitch 1.27mm, IPC Low Density)
pins: 1 XIN (in), 2 XOUT (out), 3 NC, 4 SSN (in), 5 GND (power), 6 SSCOUT (out), 7 SEL (in), 8 VDD (power)

## RD151TS3324ARP
designator U?
Spread Spectrum Clock for EMI Solution, 8-Pin SOIC; Published: 5-Feb-2010; DatasheetVersion: Rev.1.00, May-2006; PackageVersion: Sep-2005; PackageReference: PRSP0008DD-C; Publisher: Altium Limited; PackageDescription: 8-Pin Plastic Small Outline Integrated Circuit 1.27 mm Pitch; Code_JEITA: P-SOP8-3.95x4.9-1.27; Code_IPC: SOIC127P600-8; ComponentLink1Description: Manufacturer Link; ComponentLink1URL: http://sg.renesas.com/fmwk.jsp?cnt=assp_category_landing.jsp&fp=/products/assp; ComponentLink2Description: Datasheet; ComponentLink2URL: http://documentation.renesas.com/eng/products/logic/rej03d0795_rd151ts3314_24arpds.pdf; ComponentLink3Description: Packaging Specification; ComponentLink3URL: http://sg.renesas.com/media/products/common_info/package/pdf/ic/code/prsp0008dd_c.pdf
footprint PRSP0008DD-C_N (SOIC, 8-Leads, Body 4.9x3.95mm, Pitch 1.27mm, IPC Medium Density)
footprint PRSP0008DD-C_L (SOIC, 8-Leads, Body 4.9x3.95mm, Pitch 1.27mm, IPC High Density)
footprint PRSP0008DD-C_M (SOIC, 8-Leads, Body 4.9x3.95mm, Pitch 1.27mm, IPC Low Density)
pins: 1 XIN (in), 2 XOUT (out), 3 NC, 4 SSN (in), 5 GND (power), 6 SSCOUT (out), 7 SEL (in), 8 VDD (power)

## RD151TS3325ARP
designator U?
Spread Spectrum Clock for EMI Solution, 8-Pin SOIC; Published: 5-Feb-2010; DatasheetVersion: Rev.1.00, May-2006; PackageVersion: Sep-2005; PackageReference: PRSP0008DD-C; Publisher: Altium Limited; PackageDescription: 8-Pin Plastic Small Outline Integrated Circuit 1.27 mm Pitch; Code_JEITA: P-SOP8-3.95x4.9-1.27; Code_IPC: SOIC127P600-8; ComponentLink1Description: Manufacturer Link; ComponentLink1URL: http://sg.renesas.com/fmwk.jsp?cnt=assp_category_landing.jsp&fp=/products/assp; ComponentLink2Description: Datasheet; ComponentLink2URL: http://documentation.renesas.com/eng/products/logic/rej03d0796_rd151ts3315_25arpds.pdf; ComponentLink3Description: Packaging Specification; ComponentLink3URL: http://sg.renesas.com/media/products/common_info/package/pdf/ic/code/prsp0008dd_c.pdf
footprint PRSP0008DD-C_N (SOIC, 8-Leads, Body 4.9x3.95mm, Pitch 1.27mm, IPC Medium Density)
footprint PRSP0008DD-C_L (SOIC, 8-Leads, Body 4.9x3.95mm, Pitch 1.27mm, IPC High Density)
footprint PRSP0008DD-C_M (SOIC, 8-Leads, Body 4.9x3.95mm, Pitch 1.27mm, IPC Low Density)
pins: 1 XIN (in), 2 XOUT (out), 3 NC, 4 SSN (in), 5 GND (power), 6 SSCOUT (out), 7 SEL (in), 8 VDD (power)

## RD151TS3326ARP
designator U?
Spread Spectrum Clock for EMI Solution, 8-Pin SOIC; Published: 5-Feb-2010; DatasheetVersion: Rev.1.00, May-2006; PackageVersion: Sep-2005; PackageReference: PRSP0008DD-C; Publisher: Altium Limited; PackageDescription: 8-Pin Plastic Small Outline Integrated Circuit 1.27 mm Pitch; Code_JEITA: P-SOP8-3.95x4.9-1.27; Code_IPC: SOIC127P600-8; ComponentLink1Description: Manufacturer Link; ComponentLink1URL: http://sg.renesas.com/fmwk.jsp?cnt=assp_category_landing.jsp&fp=/products/assp; ComponentLink2Description: Datasheet; ComponentLink2URL: http://documentation.renesas.com/eng/products/logic/rej03d0797_rd151ts3316_26arpds.pdf; ComponentLink3Description: Packaging Specification; ComponentLink3URL: http://sg.renesas.com/media/products/common_info/package/pdf/ic/code/prsp0008dd_c.pdf
footprint PRSP0008DD-C_N (SOIC, 8-Leads, Body 4.9x3.95mm, Pitch 1.27mm, IPC Medium Density)
footprint PRSP0008DD-C_L (SOIC, 8-Leads, Body 4.9x3.95mm, Pitch 1.27mm, IPC High Density)
footprint PRSP0008DD-C_M (SOIC, 8-Leads, Body 4.9x3.95mm, Pitch 1.27mm, IPC Low Density)
pins: 1 XIN (in), 2 XOUT (out), 3 NC, 4 SSN (in), 5 GND (power), 6 SSCOUT (out), 7 SEL (in), 8 VDD (power)